# Altium schematic symbol library EwgMicrochips.SchLib: 118 symbols (part 2 of 2)
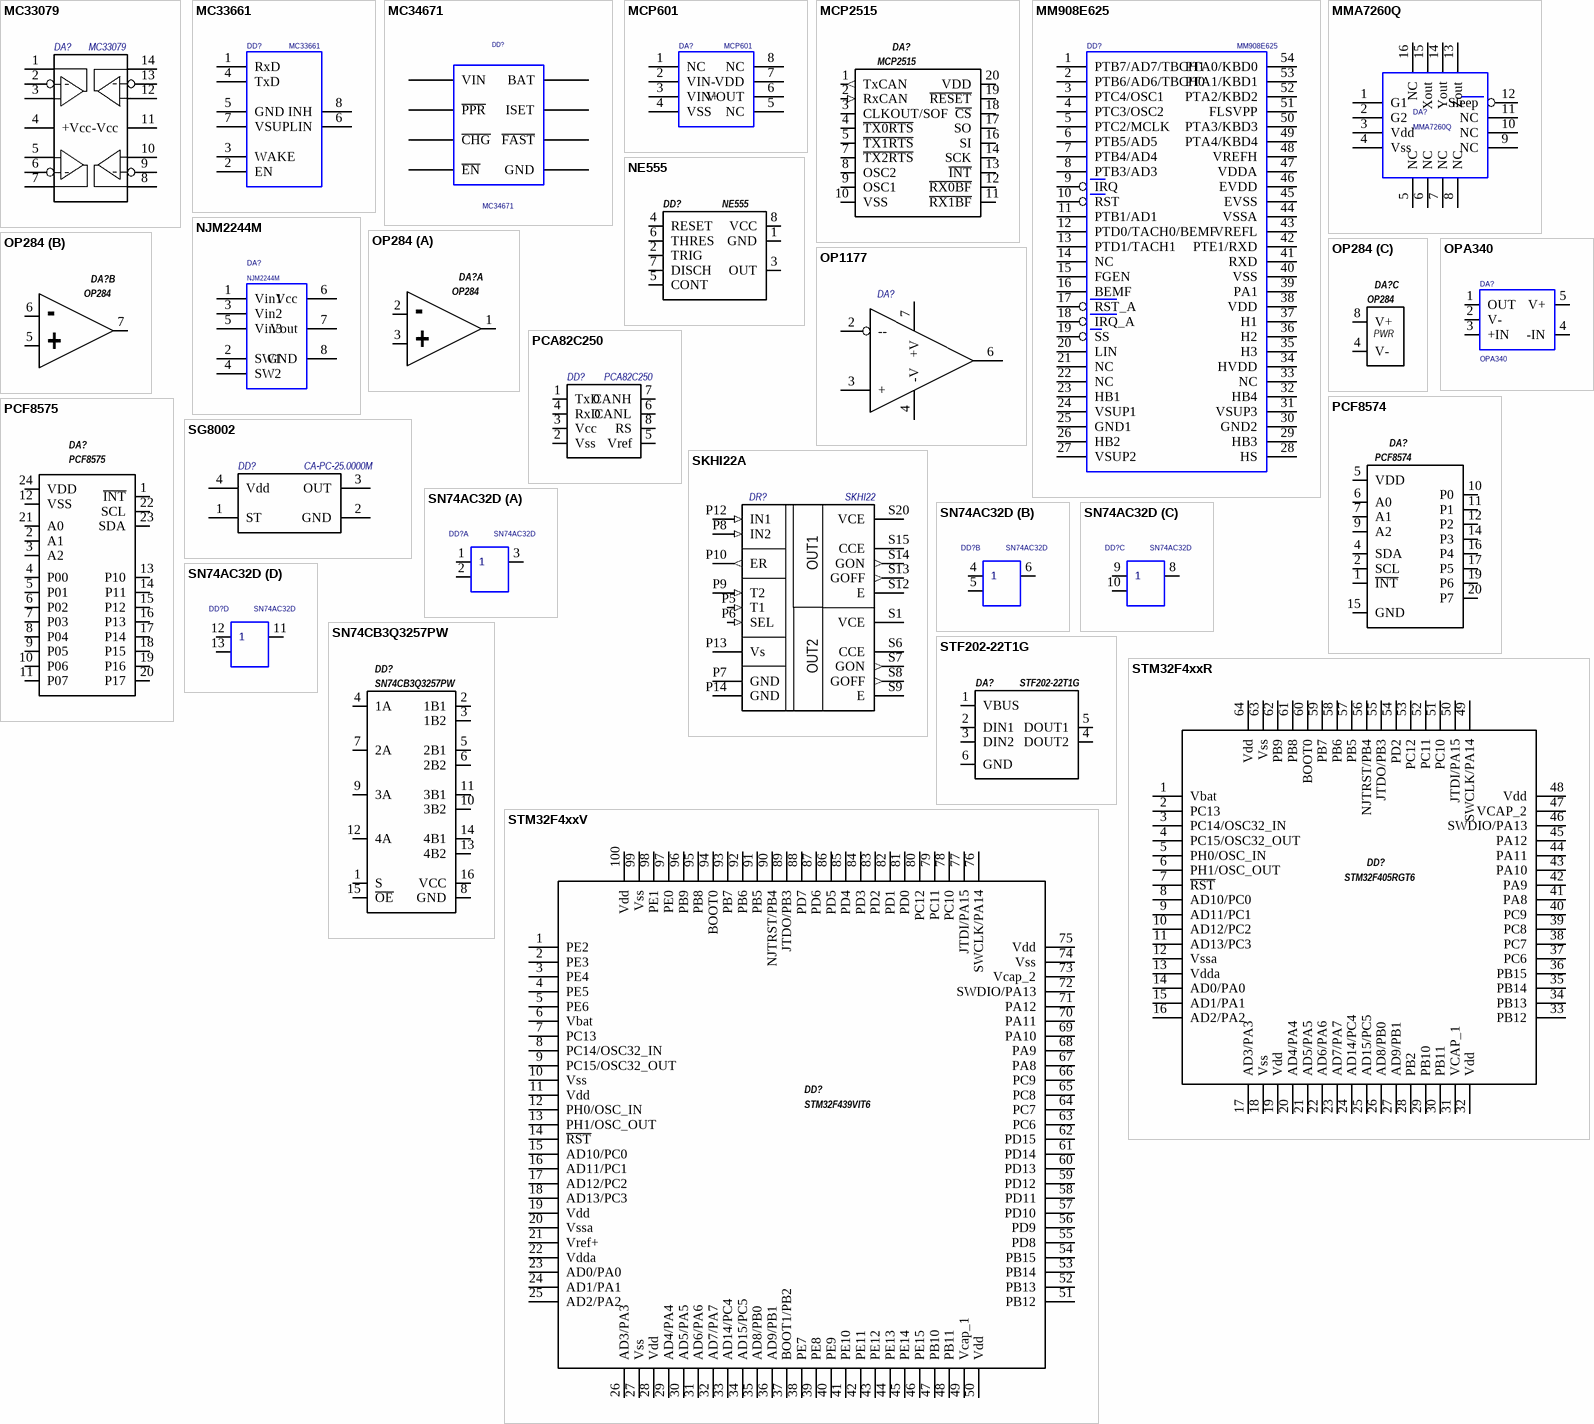
[diagram p8: symbols MC33079 to STM32F4xxV]

## STM32F4xxR
designator DD?, comment STM32F405RGT6
Микроконтроллер; Производитель: STMicroelectronics; Тип корпуса: LQFP64; Тип монтажа: Поверхностный; Наименование: STM32F405RGT6; Тип компонента: Микроконтроллер
footprint LQFP64
pins: 1 Vbat, 2 PC13, 3 PC14/OSC32_IN, 4 PC15/OSC32_OUT, 5 PH0/OSC_IN, 6 PH1/OSC_OUT, 7 ~{RST}, 8 AD10/PC0, 9 AD11/PC1, 10 AD12/PC2, 11 AD13/PC3, 12 Vssa, 13 Vdda, 14 AD0/PA0, 15 AD1/PA1, 16 AD2/PA2, 17 AD3/PA3, 18 Vss, 19 Vdd, 20 AD4/PA4, 21 AD5/PA5, 22 AD6/PA6, 23 AD7/PA7, 24 AD14/PC4, 25 AD15/PC5, 26 AD8/PB0, 27 AD9/PB1, 28 PB2, 29 PB10, 30 PB11, 31 VCAP_1, 32 Vdd, 33 PB12, 34 PB13, 35 PB14, 36 PB15, 37 PC6, 38 PC7, 39 PC8, 40 PC9, 41 PA8, 42 PA9, 43 PA10, 44 PA11, 45 PA12, 46 SWDIO/PA13, 47 VCAP_2, 48 Vdd, 49 SWCLK/PA14, 50 JTDI/PA15, 51 PC10, 52 PC11, 53 PC12, 54 PD2, 55 JTDO/PB3, 56 NJTRST/PB4, 57 PB5, 58 PB6, 59 PB7, 60 BOOT0, 61 PB8, 62 PB9, 63 Vss, 64 Vdd

## STM32F4xxV
designator DD?, comment STM32F439VIT6
Микроконтроллер; Производитель: STMicroelectronics; Тип корпуса: LQFP100; Тип монтажа: Поверхностный; Наименование: STM32F439VIT6; Тип компонента: Микроконтроллер
footprint LQFP100
pins: 1 PE2, 2 PE3, 3 PE4, 4 PE5, 5 PE6, 6 Vbat, 7 PC13, 8 PC14/OSC32_IN, 9 PC15/OSC32_OUT, 10 Vss, 11 Vdd, 12 PH0/OSC_IN, 13 PH1/OSC_OUT, 14 ~{RST}, 15 AD10/PC0, 16 AD11/PC1, 17 AD12/PC2, 18 AD13/PC3, 19 Vdd, 20 Vssa, 21 Vref+, 22 Vdda, 23 AD0/PA0, 24 AD1/PA1, 25 AD2/PA2, 26 AD3/PA3, 27 Vss, 28 Vdd, 29 AD4/PA4, 30 AD5/PA5, 31 AD6/PA6, 32 AD7/PA7, 33 AD14/PC4, 34 AD15/PC5, 35 AD8/PB0, 36 AD9/PB1, 37 BOOT1/PB2, 38 PE7, 39 PE8, 40 PE9, 41 PE10, 42 PE11, 43 PE12, 44 PE13, 45 PE14, 46 PE15, 47 PB10, 48 PB11, 49 Vcap_1, 50 Vdd, 51 PB12, 52 PB13, 53 PB14, 54 PB15, 55 PD8, 56 PD9, 57 PD10, 58 PD11, 59 PD12, 60 PD13, 61 PD14, 62 PD15, 63 PC6, 64 PC7, 65 PC8, 66 PC9, 67 PA8, 68 PA9, 69 PA10, 70 PA11, 71 PA12, 72 SWDIO/PA13, 73 Vcap_2, 74 Vss, 75 Vdd, 76 SWCLK/PA14, 77 JTDI/PA15, 78 PC10, 79 PC11, 80 PC12, 81 PD0, 82 PD1, 83 PD2, 84 PD3, 85 PD4, 86 PD5, 87 PD6, 88 PD7, 89 JTDO/PB3, 90 NJTRST/PB4, 91 PB5, 92 PB6, 93 PB7, 94 BOOT0, 95 PB8, 96 PB9, 97 PE0, 98 PE1, 99 Vss, 100 Vdd

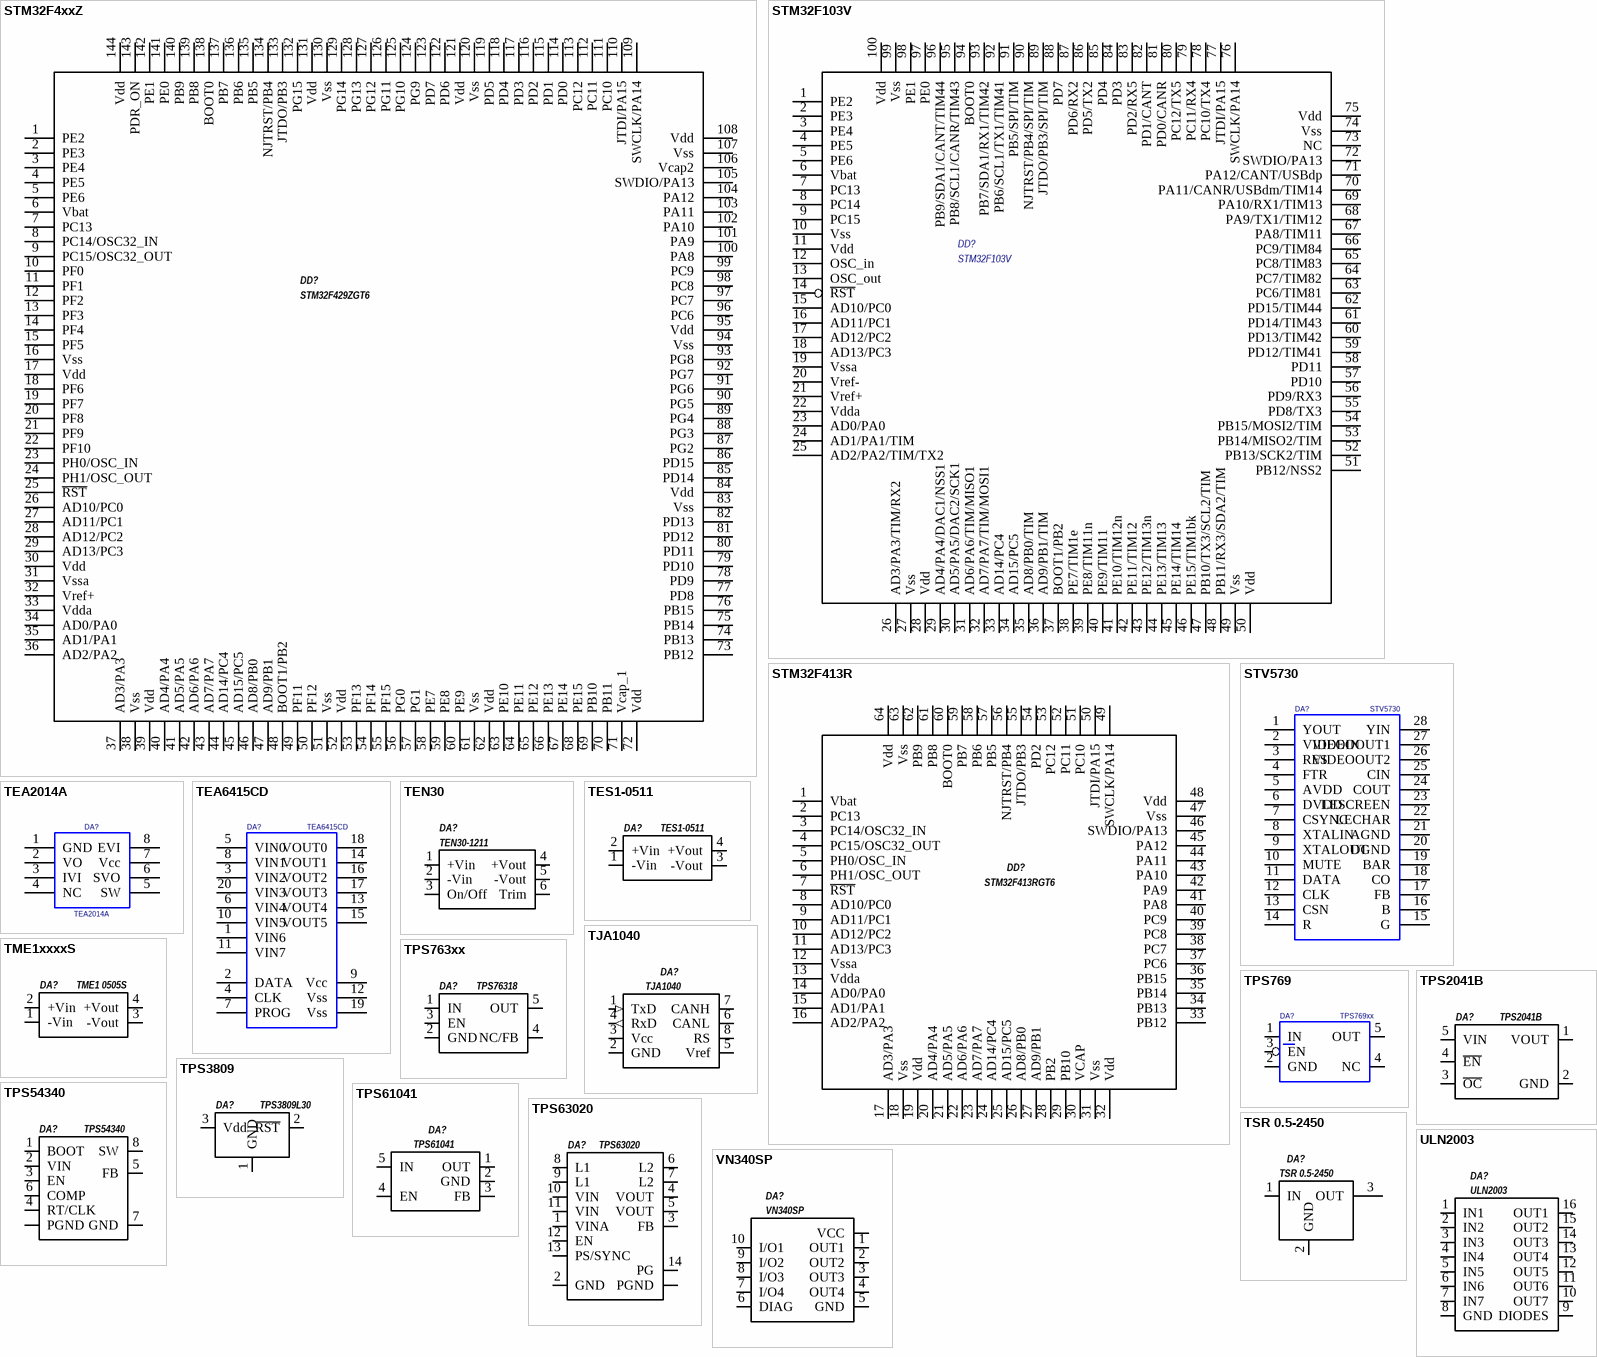
[diagram p6: symbols STM32F4xxZ to VN340SP]

## STM32F4xxZ
designator DD?, comment STM32F429ZGT6
Микроконтроллер; Производитель: STMicroelectronics; Тип корпуса: LQFP144; Тип монтажа: Поверхностный; Наименование: STM32F429ZGT6; Тип компонента: Микроконтроллер
footprint LQFP144
pins: 1 PE2, 2 PE3, 3 PE4, 4 PE5, 5 PE6, 6 Vbat, 7 PC13, 8 PC14/OSC32_IN, 9 PC15/OSC32_OUT, 10 PF0, 11 PF1, 12 PF2, 13 PF3, 14 PF4, 15 PF5, 16 Vss, 17 Vdd, 18 PF6, 19 PF7, 20 PF8, 21 PF9, 22 PF10, 23 PH0/OSC_IN, 24 PH1/OSC_OUT, 25 ~{RST}, 26 AD10/PC0, 27 AD11/PC1, 28 AD12/PC2, 29 AD13/PC3, 30 Vdd, 31 Vssa, 32 Vref+, 33 Vdda, 34 AD0/PA0, 35 AD1/PA1, 36 AD2/PA2, 37 AD3/PA3, 38 Vss, 39 Vdd, 40 AD4/PA4, 41 AD5/PA5, 42 AD6/PA6, 43 AD7/PA7, 44 AD14/PC4, 45 AD15/PC5, 46 AD8/PB0, 47 AD9/PB1, 48 BOOT1/PB2, 49 PF11, 50 PF12, 51 Vss, 52 Vdd, 53 PF13, 54 PF14, 55 PF15, 56 PG0, 57 PG1, 58 PE7, 59 PE8, 60 PE9, 61 Vss, 62 Vdd, 63 PE10, 64 PE11, 65 PE12, 66 PE13, 67 PE14, 68 PE15, 69 PB10, 70 PB11, 71 Vcap_1, 72 Vdd, 73 PB12, 74 PB13, 75 PB14, 76 PB15, 77 PD8, 78 PD9, 79 PD10, 80 PD11, 81 PD12, 82 PD13, 83 Vss, 84 Vdd, 85 PD14, 86 PD15, 87 PG2, 88 PG3, 89 PG4, 90 PG5, 91 PG6, 92 PG7, 93 PG8, 94 Vss, 95 Vdd, 96 PC6, 97 PC7, 98 PC8, 99 PC9, 100 PA8, 101 PA9, 102 PA10, 103 PA11, 104 PA12, 105 SWDIO/PA13, 106 Vcap2, 107 Vss, 108 Vdd, 109 SWCLK/PA14, 110 JTDI/PA15, 111 PC10, 112 PC11, 113 PC12, 114 PD0, 115 PD1, 116 PD2, 117 PD3, 118 PD4, 119 PD5, 120 Vss, 121 Vdd, 122 PD6, 123 PD7, 124 PG9, 125 PG10, 126 PG11, 127 PG12, 128 PG13, 129 PG14, 130 Vss, 131 Vdd, 132 PG15, 133 JTDO/PB3, 134 NJTRST/PB4, 135 PB5, 136 PB6, 137 PB7, 138 BOOT0, 139 PB8, 140 PB9, 141 PE0, 142 PE1, 143 PDR_ON, 144 Vdd

## STM32F103V
designator DD?
Микроконтроллер; Тип корпуса: LQFP100; Тип монтажа: Поверхностный; Value: STM32F103V; Наименование: STM32F103V; Тип компонента: Микроконтроллер
footprint LQFP100
pins: 1 PE2, 2 PE3, 3 PE4, 4 PE5, 5 PE6, 6 Vbat, 7 PC13, 8 PC14, 9 PC15, 10 Vss, 11 Vdd, 12 OSC_in, 13 OSC_out, 14 ~{RST}, 15 AD10/PC0, 16 AD11/PC1, 17 AD12/PC2, 18 AD13/PC3, 19 Vssa, 20 Vref-, 21 Vref+, 22 Vdda, 23 AD0/PA0, 24 AD1/PA1/TIM, 25 AD2/PA2/TIM/TX2, 26 AD3/PA3/TIM/RX2, 27 Vss, 28 Vdd, 29 AD4/PA4/DAC1/NSS1, 30 AD5/PA5/DAC2/SCK1, 31 AD6/PA6/TIM/MISO1, 32 AD7/PA7/TIM/MOSI1, 33 AD14/PC4, 34 AD15/PC5, 35 AD8/PB0/TIM, 36 AD9/PB1/TIM, 37 BOOT1/PB2, 38 PE7/TIM1e, 39 PE8/TIM11n, 40 PE9/TIM11, 41 PE10/TIM12n, 42 PE11/TIM12, 43 PE12/TIM13n, 44 PE13/TIM13, 45 PE14/TIM14, 46 PE15/TIM1bk, 47 PB10/TX3/SCL2/TIM, 48 PB11/RX3/SDA2/TIM, 49 Vss, 50 Vdd, 51 PB12/NSS2, 52 PB13/SCK2/TIM, 53 PB14/MISO2/TIM, 54 PB15/MOSI2/TIM, 55 PD8/TX3, 56 PD9/RX3, 57 PD10, 58 PD11, 59 PD12/TIM41, 60 PD13/TIM42, 61 PD14/TIM43, 62 PD15/TIM44, 63 PC6/TIM81, 64 PC7/TIM82, 65 PC8/TIM83, 66 PC9/TIM84, 67 PA8/TIM11, 68 PA9/TX1/TIM12, 69 PA10/RX1/TIM13, 70 PA11/CANR/USBdm/TIM14, 71 PA12/CANT/USBdp, 72 SWDIO/PA13, 73 NC, 74 Vss, 75 Vdd, 76 SWCLK/PA14, 77 JTDI/PA15, 78 PC10/TX4, 79 PC11/RX4, 80 PC12/TX5, 81 PD0/CANR, 82 PD1/CANT, 83 PD2/RX5, 84 PD3, 85 PD4, 86 PD5/TX2, 87 PD6/RX2, 88 PD7, 89 JTDO/PB3/SPI/TIM, 90 NJTRST/PB4/SPI/TIM, 91 PB5/SPI/TIM, 92 PB6/SCL1/TX1/TIM41, 93 PB7/SDA1/RX1/TIM42, 94 BOOT0, 95 PB8/SCL1/CANR/TIM43, 96 PB9/SDA1/CANT/TIM44, 97 PE0, 98 PE1, 99 Vss, 100 Vdd

## STM32F413R
designator DD?, comment STM32F413RGT6
Микроконтроллер; Производитель: STMicroelectronics; Тип корпуса: LQFP64; Тип монтажа: Поверхностный; Наименование: STM32F413RGT6; Тип компонента: Микроконтроллер
footprint LQFP64
pins: 1 Vbat, 2 PC13, 3 PC14/OSC32_IN, 4 PC15/OSC32_OUT, 5 PH0/OSC_IN, 6 PH1/OSC_OUT, 7 ~{RST}, 8 AD10/PC0, 9 AD11/PC1, 10 AD12/PC2, 11 AD13/PC3, 12 Vssa, 13 Vdda, 14 AD0/PA0, 15 AD1/PA1, 16 AD2/PA2, 17 AD3/PA3, 18 Vss, 19 Vdd, 20 AD4/PA4, 21 AD5/PA5, 22 AD6/PA6, 23 AD7/PA7, 24 AD14/PC4, 25 AD15/PC5, 26 AD8/PB0, 27 AD9/PB1, 28 PB2, 29 PB10, 30 VCAP, 31 Vss, 32 Vdd, 33 PB12, 34 PB13, 35 PB14, 36 PB15, 37 PC6, 38 PC7, 39 PC8, 40 PC9, 41 PA8, 42 PA9, 43 PA10, 44 PA11, 45 PA12, 46 SWDIO/PA13, 47 Vss, 48 Vdd, 49 SWCLK/PA14, 50 JTDI/PA15, 51 PC10, 52 PC11, 53 PC12, 54 PD2, 55 JTDO/PB3, 56 NJTRST/PB4, 57 PB5, 58 PB6, 59 PB7, 60 BOOT0, 61 PB8, 62 PB9, 63 Vss, 64 Vdd

## STV5730
designator DA?
Микросхема - Видео субтитры; Наименование: SGS-THOMSON, STV5730A; Тип корпуса: SO28; Тип монтажа: Поверхностный; Value: *; Тип компонента: Микросхема - Видео субтитры
footprint SO28
pins: 1 YOUT, 2 VIDEOIN, 3 RES, 4 FTR, 5 AVDD, 6 DVDD, 7 CSYNC, 8 XTALIN, 9 XTALOUT, 10 MUTE, 11 DATA, 12 CLK, 13 CSN, 14 R, 15 G, 16 B, 17 FB, 18 CO, 19 BAR, 20 DGND, 21 AGND, 22 LECHAR, 23 LESCREEN, 24 COUT, 25 CIN, 26 VIDEOOUT2, 27 VIDEOOUT1, 28 YIN

## TEA2014A
designator DA?
Микросхема - Видео переключатель; Наименование: ST Microelectronics, TEA2014A; Тип корпуса: DIP8; Тип монтажа: Штыревой; Value: *; Тип компонента: Микросхема - Видео переключатель
footprint DIP8
pins: 1 GND, 2 VO, 3 IVI, 4 NC, 5 SW, 6 SVO, 7 Vcc, 8 EVI

## TEA6415CD
designator DA?
Микросхема - Видеокоммутатор; Наименование: SGS-THOMSON, TEA6415C; Тип корпуса: SO20; Тип монтажа: Поверхностный; Value: *; Тип компонента: Микросхема - Видеокоммутатор
footprint SO20
pins: 1 VIN6, 2 DATA, 3 VIN2, 4 CLK, 5 VIN0, 6 VIN4, 7 PROG, 8 VIN1, 9 Vcc, 10 VIN5, 11 VIN7, 12 Vss, 13 VOUT4, 14 VOUT1, 15 VOUT5, 16 VOUT2, 17 VOUT3, 18 VOUT0, 19 Vss, 20 VIN3

## TEN30
designator DA?, comment TEN30-1211
DC-DC преобразователь; Производитель: Traco Power; Тип монтажа: Штыревой; Характеристики: Вх. 9-18В, вых. 5В 6А; Наименование: TEN30-1211; Тип компонента: DC-DC преобразователь
footprint TEN30 (Footprint not found)
pins: 1 +Vin, 2 -Vin, 3 On/Off, 4 +Vout, 5 -Vout, 6 Trim

## TES1-0511
designator DA?
DC-DC преобразователь; Производитель: Traco Power; Тип монтажа: Поверхностный; Характеристики: 5В-5В 200мА 1Вт; Наименование: TES1-0511; Тип компонента: DC-DC преобразователь
footprint TES 1-XXXX
pins: 1 -Vin, 2 +Vin, 3 -Vout, 4 +Vout

## TJA1040
designator DA?
Интерфейс CAN; Производитель: NXP; Тип корпуса: SO8; Тип монтажа: Поверхностный; Наименование: TJA1040; Тип компонента: Интерфейс CAN
footprint SO8-3.9
pins: 1 TxD (in), 2 GND, 3 Vcc, 4 RxD (out), 5 Vref, 6 CANL, 7 CANH, 8 RS

## TME1xxxxS
designator DA?, comment TME1 0505S
DC-DC преобразователь; Производитель: Traco Power; Тип корпуса: SIP-4; Тип монтажа: Поверхностный; Характеристики: 5В-5В 200мА 1Вт; Наименование: TME1 0505S; Тип компонента: DC-DC преобразователь
footprint TME1xxxxS (SIP4)
pins: 1 -Vin, 2 +Vin, 3 -Vout, 4 +Vout

## TPS763хх
designator DA?, comment TPS76318
DC преобразователь линейный; Производитель: Texas Instruments; Тип корпуса: SOT-23-5; Тип монтажа: Поверхностный; Характеристики: 1.8В 150мА; Наименование: TPS76318; Тип компонента: DC преобразователь линейный
footprint SOT23-5
pins: 1 IN, 2 GND, 3 EN, 4 NC/FB, 5 OUT

## TPS769
designator DA?, comment TPS769xx
Стабилизатор напряжения; Value: {Value}; Наименование: Texas Instruments, TPS769xxDBV; Тип корпуса: SOT-23-5; Тип монтажа: Поверхностный; Тип компонента: Стабилизатор напряжения
footprint SOT23-5
pins: 1 IN, 2 GND, 3 EN, 4 NC, 5 OUT

## TPS2041B
designator DA?
Интерфейс USB контроллер питания; Производитель: Texas Instruments; Тип корпуса: SOT23-5; Тип монтажа: Поверхностный; Наименование: TPS2041B; Тип компонента: Интерфейс USB контроллер питания
footprint SOT23-5
pins: 1 VOUT, 2 GND, 3 ~{OC}, 4 ~{EN}, 5 VIN

## TPS3809
designator DA?, comment TPS3809L30
Монитор питания; Производитель: Texas Instruments; Тип корпуса: SOT-23; Тип монтажа: Поверхностный; Характеристики: Порог 2.64В (для схем с 3.0В); Наименование: TPS3809L30; Тип компонента: Монитор питания
footprint SOT23-3
pins: 1 GND, 2 ~{RST}, 3 Vdd

## TPS54340
designator DA?
DC преобразователь понижающий; Производитель: Texas Instruments; Тип компонента: Регулятор; Тип корпуса: HSOP; Тип монтажа: Поверхностный; Характеристики: 4.5...42В вх, 0.8...41В вых, 3.5А; Наименование: TPS54340
footprint SO8-3.9_P
pins: 0 PGND, 1 BOOT, 2 VIN, 3 EN, 4 RT/CLK, 5 FB, 6 COMP, 7 GND, 8 SW

## TPS61041
designator DA?
DC преобразователь повышающий; Поставка: Texas Instruments; Тип корпуса: SOT-23-5; Тип монтажа: Поверхностный; Характеристики: 1.8-28В 250мА; Наименование: TPS61041; Тип компонента: DC преобразователь повышающий
footprint SOT23-5
pins: 1 OUT, 2 GND, 3 FB, 4 EN, 5 IN

## TPS63020
designator DA?
DC преобразователь универсальный; Производитель: Texas Instruments; Тип корпуса: VSON-14; Тип монтажа: Поверхностный; Характеристики: Вх. 1.8-5.5В, Вых. 1.2-5.5В 4А; Наименование: TPS63020; Номинал: =Value; Тип компонента: DC преобразователь универсальный
footprint VSON14_P
pins: 0 PGND, 1 VINA, 2 GND, 3 FB, 4 VOUT, 5 VOUT, 6 L2, 7 L2, 8 L1, 9 L1, 10 VIN, 11 VIN, 12 EN, 13 PS/SYNC, 14 PG

## TSR 0.5-2450
designator DA?
DC-DC преобразователь; Производитель: TRACO POWER; Тип монтажа: Выводной; Характеристики: вход 6.5-32В выход 0.5А 5В; Наименование: TSR 0.5-2450; Тип компонента: DC-DC преобразователь
footprint TSR1-24XX (SIP3)
pins: 1 IN, 2 GND, 3 OUT

## ULN2003
designator DA?
Ключ нижний 7 шт.; Производитель: STmicroelectronics; Тип корпуса: TSSOP16; Тип монтажа: Поверхностный; Характеристики: 50В, 0.5А; Наименование: ULN2003; Тип компонента: Ключ нижний 7 шт.
footprint SSOP16-4.4
pins: 1 IN1, 2 IN2, 3 IN3, 4 IN4, 5 IN5, 6 IN6, 7 IN7, 8 GND, 9 DIODES, 10 OUT7, 11 OUT6, 12 OUT5, 13 OUT4, 14 OUT3, 15 OUT2, 16 OUT1

## VN340SP
designator DA?
Ключ верхний 4 шт.; Производитель: STmicroelectronics; Тип корпуса: PowerSO-10; Тип монтажа: Поверхностный; Характеристики: 36В, 1А, 0.2Ом; Наименование: VN340SP; Тип компонента: Ключ верхний 4 шт.
footprint PowerSO10
pins: 0 VCC, 1 OUT1, 2 OUT2, 3 OUT3, 4 OUT4, 5 GND, 6 DIAG, 7 I/O4, 8 I/O3, 9 I/O2, 10 I/O1

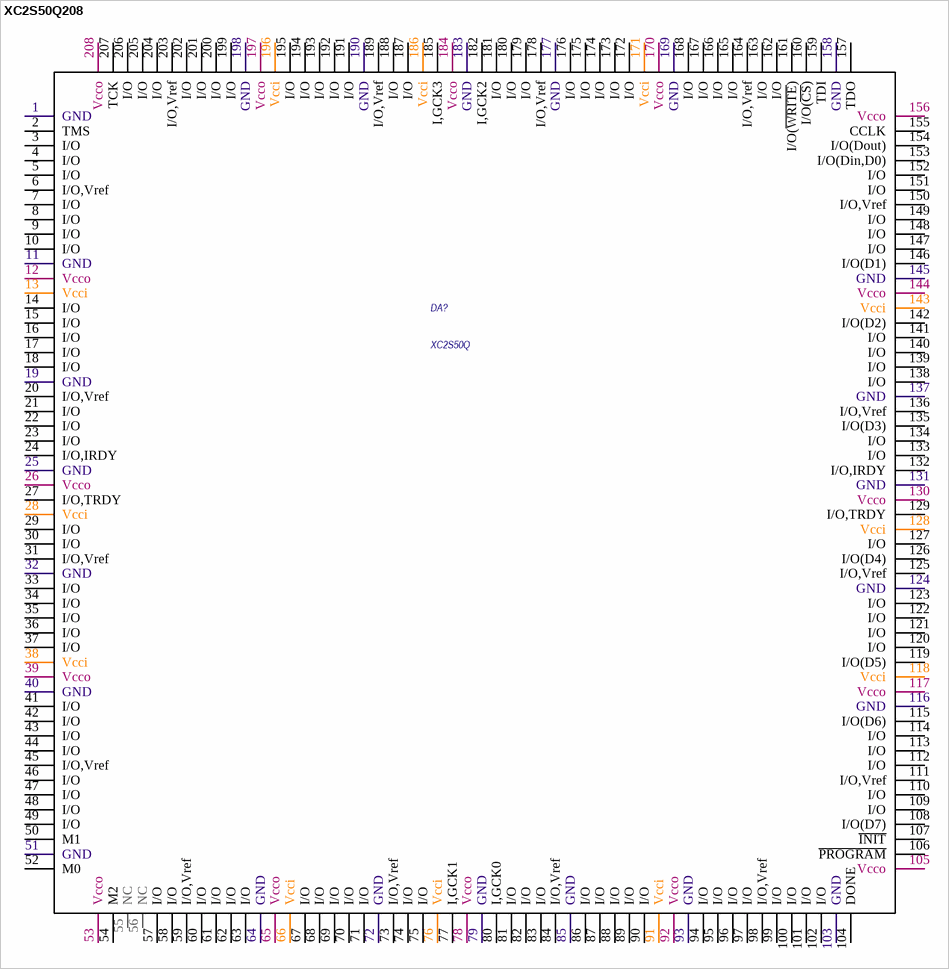
[diagram p7: symbol XC2S50Q208]

## XC2S50Q208
designator DA?, comment XC2S50Q
Value: XC2S50Q208; Наименование: XC2S50-5 PQ208I  Xilinx
footprint LQFP208
pins: 1 GND, 2 TMS, 3 I/O, 4 I/O, 5 I/O, 6 I/O,Vref, 7 I/O, 8 I/O, 9 I/O, 10 I/O, 11 GND, 12 Vcco, 13 Vcci, 14 I/O, 15 I/O, 16 I/O, 17 I/O, 18 I/O, 19 GND, 20 I/O,Vref, 21 I/O, 22 I/O, 23 I/O, 24 I/O,IRDY, 25 GND, 26 Vcco, 27 I/O,TRDY, 28 Vcci, 29 I/O, 30 I/O, 31 I/O,Vref, 32 GND, 33 I/O, 34 I/O, 35 I/O, 36 I/O, 37 I/O, 38 Vcci, 39 Vcco, 40 GND, 41 I/O, 42 I/O, 43 I/O, 44 I/O, 45 I/O,Vref, 46 I/O, 47 I/O, 48 I/O, 49 I/O, 50 M1, 51 GND, 52 M0, 53 Vcco, 54 M2, 55 NC, 56 NC, 57 I/O, 58 I/O, 59 I/O,Vref, 60 I/O, 61 I/O, 62 I/O, 63 I/O, 64 GND, 65 Vcco, 66 Vcci, 67 I/O, 68 I/O, 69 I/O, 70 I/O, 71 I/O, 72 GND, 73 I/O,Vref, 74 I/O, 75 I/O, 76 Vcci, 77 I,GCK1, 78 Vcco, 79 GND, 80 I,GCK0, 81 I/O, 82 I/O, 83 I/O, 84 I/O,Vref, 85 GND, 86 I/O, 87 I/O, 88 I/O, 89 I/O, 90 I/O, 91 Vcci, 92 Vcco, 93 GND, 94 I/O, 95 I/O, 96 I/O, 97 I/O, 98 I/O,Vref, 99 I/O, 100 I/O, 101 I/O, 102 I/O, 103 GND, 104 DONE, 105 Vcco, 106 ~{PROGRAM}, 107 ~{INIT}, 108 I/O(D7), 109 I/O, 110 I/O, 111 I/O,Vref, 112 I/O, 113 I/O, 114 I/O, 115 I/O(D6), 116 GND, 117 Vcco, 118 Vcci, 119 I/O(D5), 120 I/O, 121 I/O, 122 I/O, 123 I/O, 124 GND, 125 I/O,Vref, 126 I/O(D4), 127 I/O, 128 Vcci, 129 I/O,TRDY, 130 Vcco, 131 GND, 132 I/O,IRDY, 133 I/O, 134 I/O, 135 I/O(D3), 136 I/O,Vref, 137 GND, 138 I/O, 139 I/O, 140 I/O, 141 I/O, 142 I/O(D2), 143 Vcci, 144 Vcco, 145 GND, 146 I/O(D1), 147 I/O, 148 I/O, 149 I/O, 150 I/O,Vref, 151 I/O, 152 I/O, 153 I/O(Din,D0), 154 I/O(Dout), 155 CCLK, 156 Vcco, 157 TDO, 158 GND, 159 TDI, 160 I/O(~{CS}), 161 I/O(~{WRITE}), 162 I/O, 163 I/O, 164 I/O,Vref, 165 I/O, 166 I/O, 167 I/O, 168 I/O, 169 GND, 170 Vcco, 171 Vcci, 172 I/O, 173 I/O, 174 I/O, 175 I/O, 176 I/O, 177 GND, 178 I/O,Vref, 179 I/O, 180 I/O, 181 I/O, 182 I,GCK2, 183 GND, 184 Vcco, 185 I,GCK3, 186 Vcci, 187 I/O, 188 I/O, 189 I/O,Vref, 190 GND, 191 I/O, 192 I/O, 193 I/O, 194 I/O, 195 I/O, 196 Vcci, 197 Vcco, 198 GND, 199 I/O, 200 I/O, 201 I/O, 202 I/O, 203 I/O,Vref, 204 I/O, 205 I/O, 206 I/O, 207 TCK, 208 Vcco